# EAGLE library part MCP4725 (library JeeLabs)
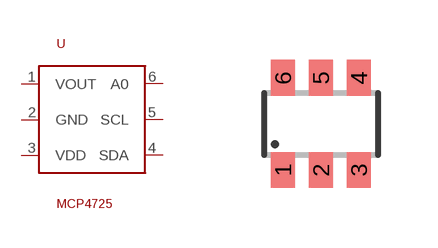
[diagram p6: symbol with the pads of SOT23-6; footprint SOT23-6]

Designator prefix -

## MCP4725  [SOT23-6]
1  VOUT
2  GND  pwr
3  VDD  pwr
4  SDA
5  SCL
6  A0

## Footprint SOT23-6 (pad centres in mm)
Small Outline Transistor 6 lead
smd 0.6 x 0.9: 1 -0.95,-1.15; 2 0,-1.15; 3 0.95,-1.15; 4 0.95,1.15; 5 0,1.15; 6 -0.95,1.15